# EAGLE library part KF2510_6PIN (library KF2510)
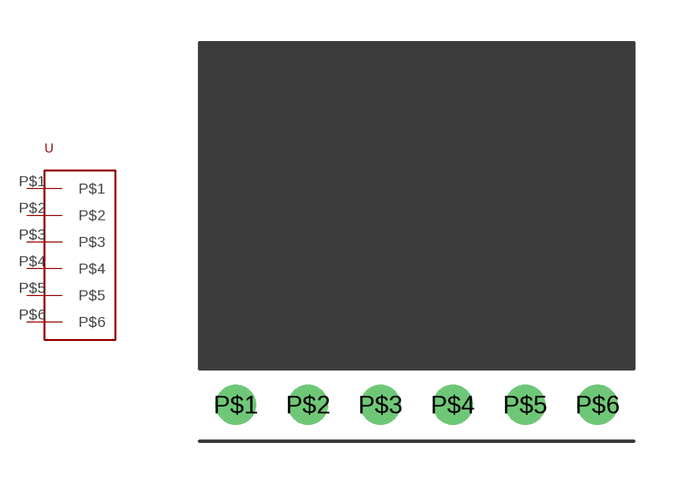
[diagram p0: symbol with the pads of KF2510_6PIN; footprint KF2510_6PIN]

Designator prefix -

## KF2510_6PIN  [KF2510_6PIN]
P$1  P$1
P$2  P$2
P$3  P$3
P$4  P$4
P$5  P$5
P$6  P$6

## Footprint KF2510_6PIN (pad centres in mm)
drill 0.9: P$1 -3.81,-6.35; P$2 -1.27,-6.35; P$3 1.27,-6.35; P$4 3.81,-6.35; P$5 6.35,-6.35; P$6 8.89,-6.35